# EAGLE library part MIC4102 (library Public)
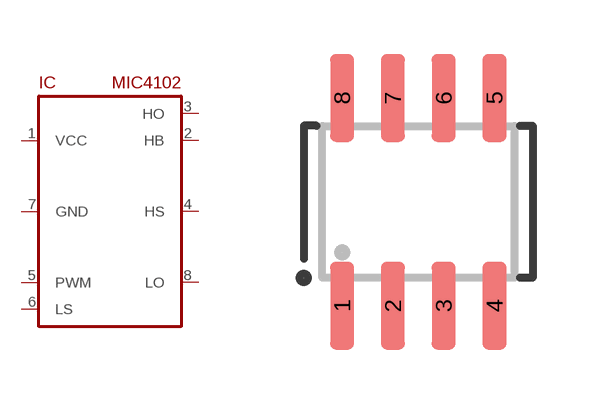
[diagram p180: symbol with the pads of SO8; footprint SO8]

Designator prefix IC

## MIC4102  [SO8]
1  VCC
2  HB
3  HO
4  HS
5  PWM
6  LS
7  GND
8  LO

## Footprint SO8 (pad centres in mm)
smd 0.6 x 2.2: 1 -1.905,-2.6; 2 -0.635,-2.6; 3 0.635,-2.6; 4 1.905,-2.6; 5 1.905,2.6; 6 0.635,2.6; 7 -0.635,2.6; 8 -1.905,2.6